# EAGLE library part TSLCD(AT032A9341W) (library Module)
TFT 3.2 Inch 240x320 (AT032A9341W)
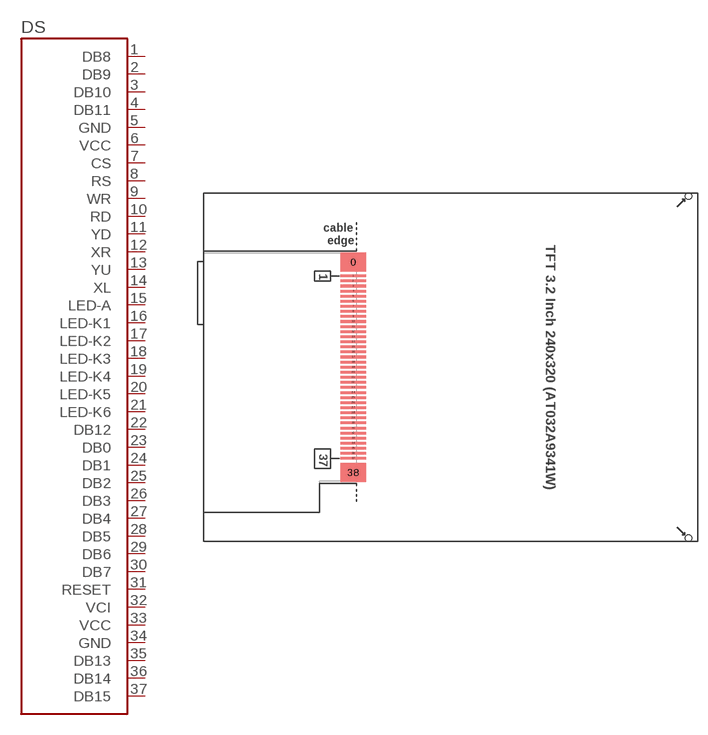
[diagram p3: symbol with the pads of TFT3.2INCH240X320(AT032A9341W); footprint TFT3.2INCH240X320(AT032A9341W)]

Designator prefix DS

## TSLCD(AT032A9341W) (CYTRON-PC: DS-LCD-TFT3.2; DESC: 240x320, ILI9341 driver, A-Tops Electronics; MPN: AT032A9341W)  [TFT3.2INCH240X320(AT032A9341W)]
1  DB8
2  DB9
3  DB10
4  DB11
5  GND
6  VCC
7  CS
8  RS
9  WR
10  RD
11  YD
12  XR
13  YU
14  XL
15  LED-A
16  LED-K1
17  LED-K2
18  LED-K3
19  LED-K4
20  LED-K5
21  LED-K6
22  DB12
23  DB0
24  DB1
25  DB2
26  DB3
27  DB4
28  DB5
29  DB6
30  DB7
31  RESET
32  VCI
33  VCC
34  GND
35  DB13
36  DB14
37  DB15

## Footprint TFT3.2INCH240X320(AT032A9341W) (pad centres in mm)
smd 4 x 3: 0 -0.025,16.6; 38 -0.025,-16.6
smd 4 x 0.4: 1 -0.025,14.4; 2 -0.025,13.6; 3 -0.025,12.8; 4 -0.025,12; 5 -0.025,11.2; 6 -0.025,10.4; 7 -0.025,9.6; 8 -0.025,8.8; 9 -0.025,8; 10 -0.025,7.2; 11 -0.025,6.4; 12 -0.025,5.6; 13 -0.025,4.8; 14 -0.025,4; 15 -0.025,3.2; 16 -0.025,2.4; 17 -0.025,1.6; 18 -0.025,0.8; 19 -0.025,0; 20 -0.025,-0.8; 21 -0.025,-1.6; 22 -0.025,-2.4; 23 -0.025,-3.2; 24 -0.025,-4; 25 -0.025,-4.8; 26 -0.025,-5.6; 27 -0.025,-6.4; 28 -0.025,-7.2; 29 -0.025,-8; 30 -0.025,-8.8; 31 -0.025,-9.6; 32 -0.025,-10.4; 33 -0.025,-11.2; 34 -0.025,-12; 35 -0.025,-12.8; 36 -0.025,-13.6; 37 -0.025,-14.4
hole 1 at 52.875,27
hole 1 at 52.875,-27